# Altium schematic symbol library Schlib1.SchLib: 1 symbol
Pins are listed as number, name and electrical type; pins without a type are passive.

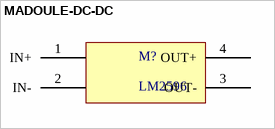
[diagram p0: symbol MADOULE-DC-DC]

## MADOULE-DC-DC
designator M?, comment LM2596
step-down voltage
footprint dc-dc-module (LM2596, power madoule)
pins: 1 IN+, 2 IN-, 3 OUT-, 4 OUT+